# Altium footprint library 2009_01_27_Thomas_Schmid_Epic_Plus.PcbLib: 21 footprints (part 2 of 2)
Each footprint in its own frame and in the unit in brackets; x right, y up, seen from the top. Pads: shape width x height; smd on the part's side, far side on the other; paste and mask are expansions set on the pad; w line width, h text height; cw(c..) or ccw(c..) is an arc to the next point about the centre after c.
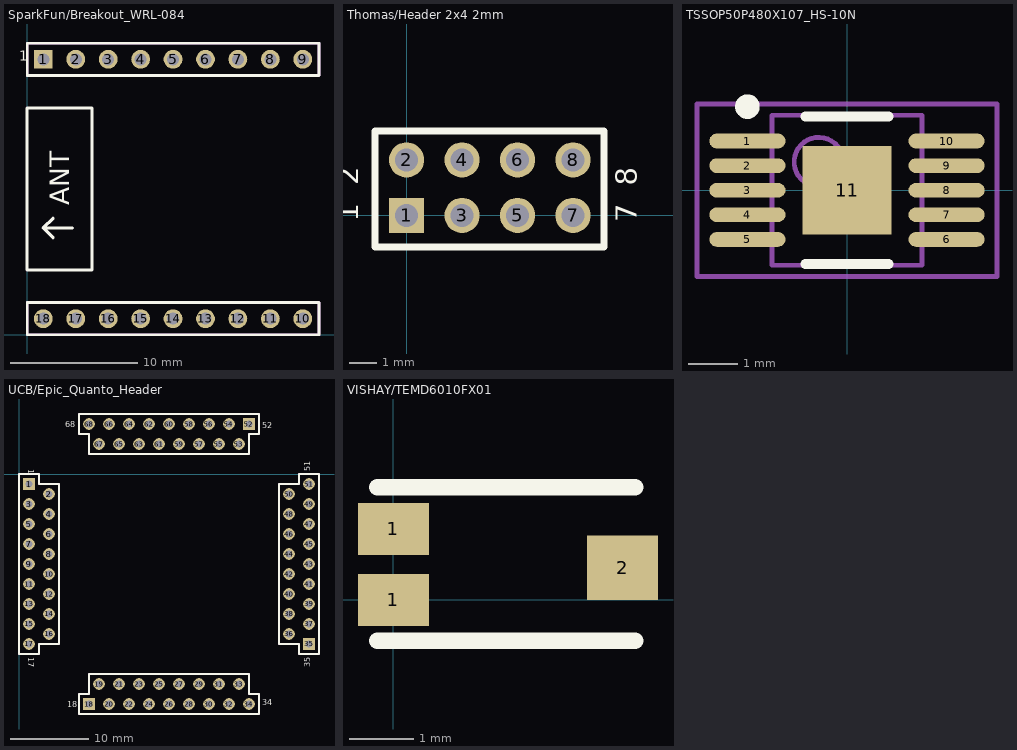
[diagram p1: the footprints below, top view; thin cyan lines are the x and y axes]

## SparkFun/Breakout_WRL-084 [mil] "Two 9 pin headers, 800mil spacing for SparkFun WRL-084 bluetooth module"
height 5
pads (18):
  rect 58x58 / inner round 60 / far side rect 58x58 hole 37: 1(50,850)
  round 58 / inner round 60 / far side round 58 hole 37: 2(150,850) 3(250,850) 4(350,850) 5(450,850) 6(550,850) 7(650,850) 8(750,850) 9(850,850) 10(850,50) 11(750,50) 12(650,50) 13(550,50) 14(450,50) 15(350,50) 16(250,50) 17(150,50) 18(50,50)
Top Overlay:
  lines w8: 0,0 0,100 900,100 900,0 0,0 ; 0,800 0,900 900,900 900,800 0,800
  lines w10: 80,300 50,330 ; 80,360 50,330 ; 140,330 50,330 ; 0,200 0,700 200,700 200,200 0,200
  text "ANT" at 130,400 h60
  text "1" at -25,845 h30
Mechanical 1:
  lines w8: 0,0 0,100 900,100 900,0 0,0 ; 0,800 0,900 900,900 900,800 0,800

## Thomas/Header 2x4 2mm [mm] "2x4 Header spaced 2mm"
pads (8):
  rect 1.27x1.27 hole 0.838: 1(0,0)
  round 1.27 hole 0.838: 2(0,2) 3(2,0) 4(2,2) 5(4,0) 6(4,2) 7(6,0) 8(6,2)
Top Overlay:
  lines w0.254: -1.143,-1.143 7.112,-1.143 7.112,3.048 -1.143,3.048 -1.143,-1.143
  text "1  2" at -1.75,-0.225 h0.76
  text "7  8" at 8.3,-0.25 h0.76

## TSSOP50P480X107_HS-10N [mm] "TSSOP, 10-Leads, Body 3.0x3.0mm (max), Pitch 0.50mm, IPC Medium Density, for TI/TPA0233"
height 1.07
pads (11):
  oval 1.55x0.3 smd: 1(-2.025,1) 2(-2.025,0.5) 3(-2.025,0) 4(-2.025,-0.5) 5(-2.025,-1) 6(2.025,-1) 7(2.025,-0.5) 8(2.025,0) 9(2.025,0.5) 10(2.025,1)
  rect 1.8x1.8 smd: 11(0,0)
Top Overlay:
  circle w0.25: c-2.025,1.7 r0.125
  lines w0.2: -0.85,-1.5 0.85,-1.5 ; -0.85,1.5 0.85,1.5
Mechanical 13:
  circle w0.1: c-0.575,0.575 r0.5
  lines w0.1: -1.525,-1.525 -1.525,1.525 1.525,1.525 1.525,-1.525 -1.525,-1.525
Mechanical 15:
  lines w0.1: -0.5,0 0.5,0 ; 0,-0.5 0,0.5 ; -3.05,-1.75 -3.05,1.75 3.05,1.75 3.05,-1.75 -3.05,-1.75
3D body: height 1.07, standoff 0.05, extent -1.525,-1.525 1.525,1.525

## UCB/Epic_Quanto_Header [mil] "Header to connect to the Epic Quanto Testbed Board"
height -1
pads (68):
  rect 58x58 / inner round 60 / far side rect 58x58 hole 37: 1(50,-50) 18(350,-1150) 35(1450,-850) 52(1150,250)
  round 58 / inner round 60 / far side round 58 hole 37: 2(150,-100) 3(50,-150) 4(150,-200) 5(50,-250) 6(150,-300) 7(50,-350) 8(150,-400) 9(50,-450) 10(150,-500) 11(50,-550) 12(150,-600) 13(50,-650) 14(150,-700) 15(50,-750) 16(150,-800) 17(50,-850) 19(400,-1050) 20(450,-1150) 21(500,-1050) 22(550,-1150) 23(600,-1050) 24(650,-1150) 25(700,-1050) 26(750,-1150) 27(800,-1050) 28(850,-1150) 29(900,-1050) 30(950,-1150) 31(1000,-1050) 32(1050,-1150) 33(1100,-1050) 34(1150,-1150) 36(1350,-800) 37(1450,-750) 38(1350,-700) 39(1450,-650) 40(1350,-600) 41(1450,-550) 42(1350,-500) 43(1450,-450) 44(1350,-400) 45(1450,-350) 46(1350,-300) 47(1450,-250) 48(1350,-200) 49(1450,-150) 50(1350,-100) 51(1450,-50) 53(1100,150) 54(1050,250) 55(1000,150) 56(950,250) 57(900,150) 58(850,250) 59(800,150) 60(750,250) 61(700,150) 62(650,250) 63(600,150) 64(550,250) 65(500,150) 66(450,250) 67(400,150) 68(350,250)
Top Overlay:
  lines w8: 0,-900 0,0 100,0 100,-50 200,-50 200,-850 100,-850 100,-900 0,-900 ; 300,-1200 300,-1100 350,-1100 350,-1000 1150,-1000 1150,-1100 1200,-1100 1200,-1200 300,-1200 ; 300,200 300,300 1200,300 1200,200 1150,200 1150,100 350,100 350,200 300,200 ; 1300,-850 1400,-850 1400,-900 1500,-900 1500,0 1400,0 1400,-50 1300,-50 1300,-850
  text "17" at 45,-915 h30
  text "1" at 45,25 h30
  text "34" at 1215,-1155 h30
  text "18" at 240,-1165 h30
  text "51" at 1455,15 h30
  text "35" at 1455,-965 h30
  text "68" at 230,235 h30
  text "52" at 1215,230 h30
Mechanical 1:
  lines w8: 100,-900 0,-900 0,0 100,0 ; 100,-850 200,-850 200,-50 100,-50 ; 300,-1100 300,-1200 1200,-1200 1200,-1100 ; 300,200 300,300 1200,300 1200,200 ; 350,-1100 350,-1000 1150,-1000 1150,-1100 ; 350,200 350,100 1150,100 1150,200 ; 1400,-900 1500,-900 1500,0 1400,0 ; 1400,-850 1300,-850 1300,-50 1400,-50

## VISHAY/TEMD6010FX01 [mm] "Ambient Light Sensor"
height 1.05
pads (3):
  rect 1.1x0.8 smd: 1(0,0) 1(0,1.1)
  rect 1.1x1 smd: 2(3.55,0.5)
Top Overlay:
  lines w0.254: -0.254,-0.635 3.746,-0.635 ; -0.254,1.75 3.746,1.75